# Altium schematic symbol library FUSE.SchLib: 1 symbol
Pins are listed as number, name and electrical type; pins without a type are passive.

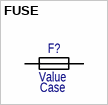
[diagram p0: symbol FUSE]

## FUSE
designator F?  (value not drawn)
Предохранитель; Case: Case; Value: Value
pins: 1, 2